# EAGLE library part IC_TC7W53F (library psas)
Single 2-IN Analog MUX
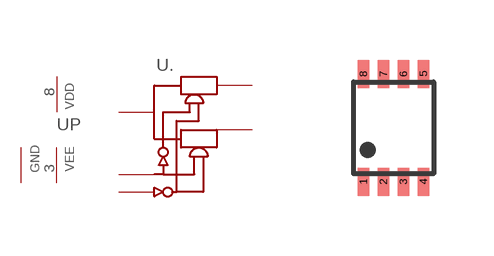
[diagram p21: symbol with the pads of SSOP-8P-0.50A; footprint SSOP-8P-0.50A]

Designator prefix -; gates .=AMUX_2 P=VDD+VEE+GND

## IC_TC7W53FK  [SSOP-8P-0.50A]
1  .:Y  pas
2  .:INH  in
3  P:VEE  pwr
4  P:GND  pwr
5  .:A/B  in
6  .:B  pas
7  .:A  pas
8  P:VDD  pwr

## Footprint SSOP-8P-0.50A (pad centres in mm)
SSOP8-P-0.50A
smd 0.279 x 0.7: 1 -0.75,-1.35; 2 -0.25,-1.35; 3 0.25,-1.35; 4 0.75,-1.35; 5 0.75,1.35; 6 0.25,1.35; 7 -0.25,1.35; 8 -0.75,1.35